# Altium schematic symbol library SCH - BJT - DIODES NPN SOT23-3.SchLib: 1 symbol
Pins are listed as number, name and electrical type; pins without a type are passive.

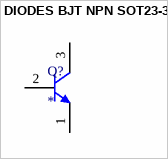
[diagram p0: symbol DIODES BJT NPN SOT23-3]

## DIODES BJT NPN SOT23-3
designator Q?
pins: 1 E, 2 B, 3 C